# EAGLE library part SN74HC109 (library ICs)
Positive edge, low latency JK Flip Flop, dual, fast.
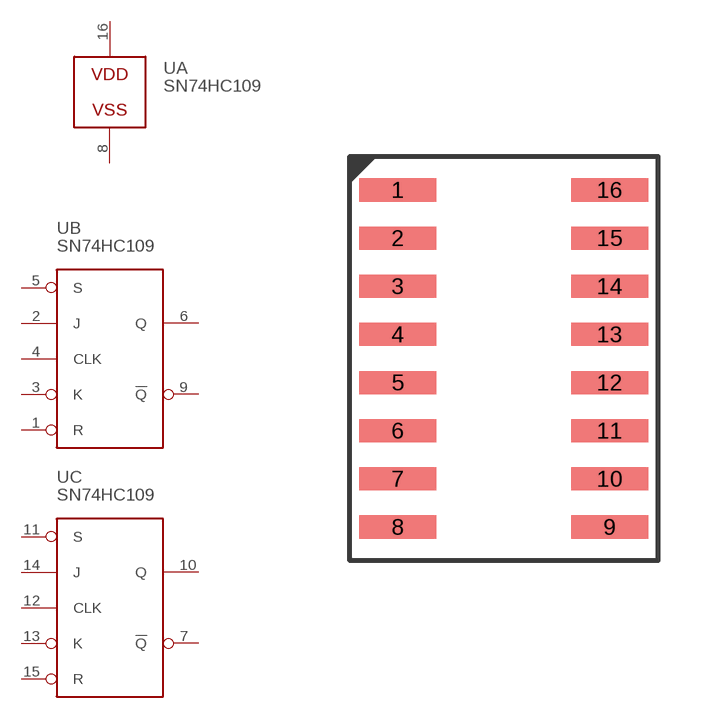
[diagram p21: symbol with the pads of SO16; footprint SO16]

Designator prefix U; gates A=PWR B=JK_FLIPFLOP C=JK_FLIPFLOP

## SN74HC109D (FARNELL: 1607726)  [SO16]
1  B:R
2  B:J
3  B:K
4  B:CLK
5  B:S
6  B:Q
7  C:!Q
8  A:GND
9  B:!Q
10  C:Q
11  C:S
12  C:CLK
13  C:K
14  C:J
15  C:R
16  A:V+

## Footprint SO16 (pad centres in mm)
smd 2 x 0.6: 1 -2.75,4.375; 2 -2.75,3.125; 3 -2.75,1.875; 4 -2.75,0.625; 5 -2.75,-0.625; 6 -2.75,-1.875; 7 -2.75,-3.125; 8 -2.75,-4.375; 9 2.75,-4.375; 10 2.75,-3.125; 11 2.75,-1.875; 12 2.75,-0.625; 13 2.75,0.625; 14 2.75,1.875; 15 2.75,3.125; 16 2.75,4.375